# Altium footprint library 418 121 270 8xx.PcbLib: 11 footprints
Each footprint in its own frame and in the unit in brackets; x right, y up, seen from the top. Pads: shape width x height; smd on the part's side, far side on the other; paste and mask are expansions set on the pad; w line width, h text height; cw(c..) or ccw(c..) is an arc to the next point about the centre after c.
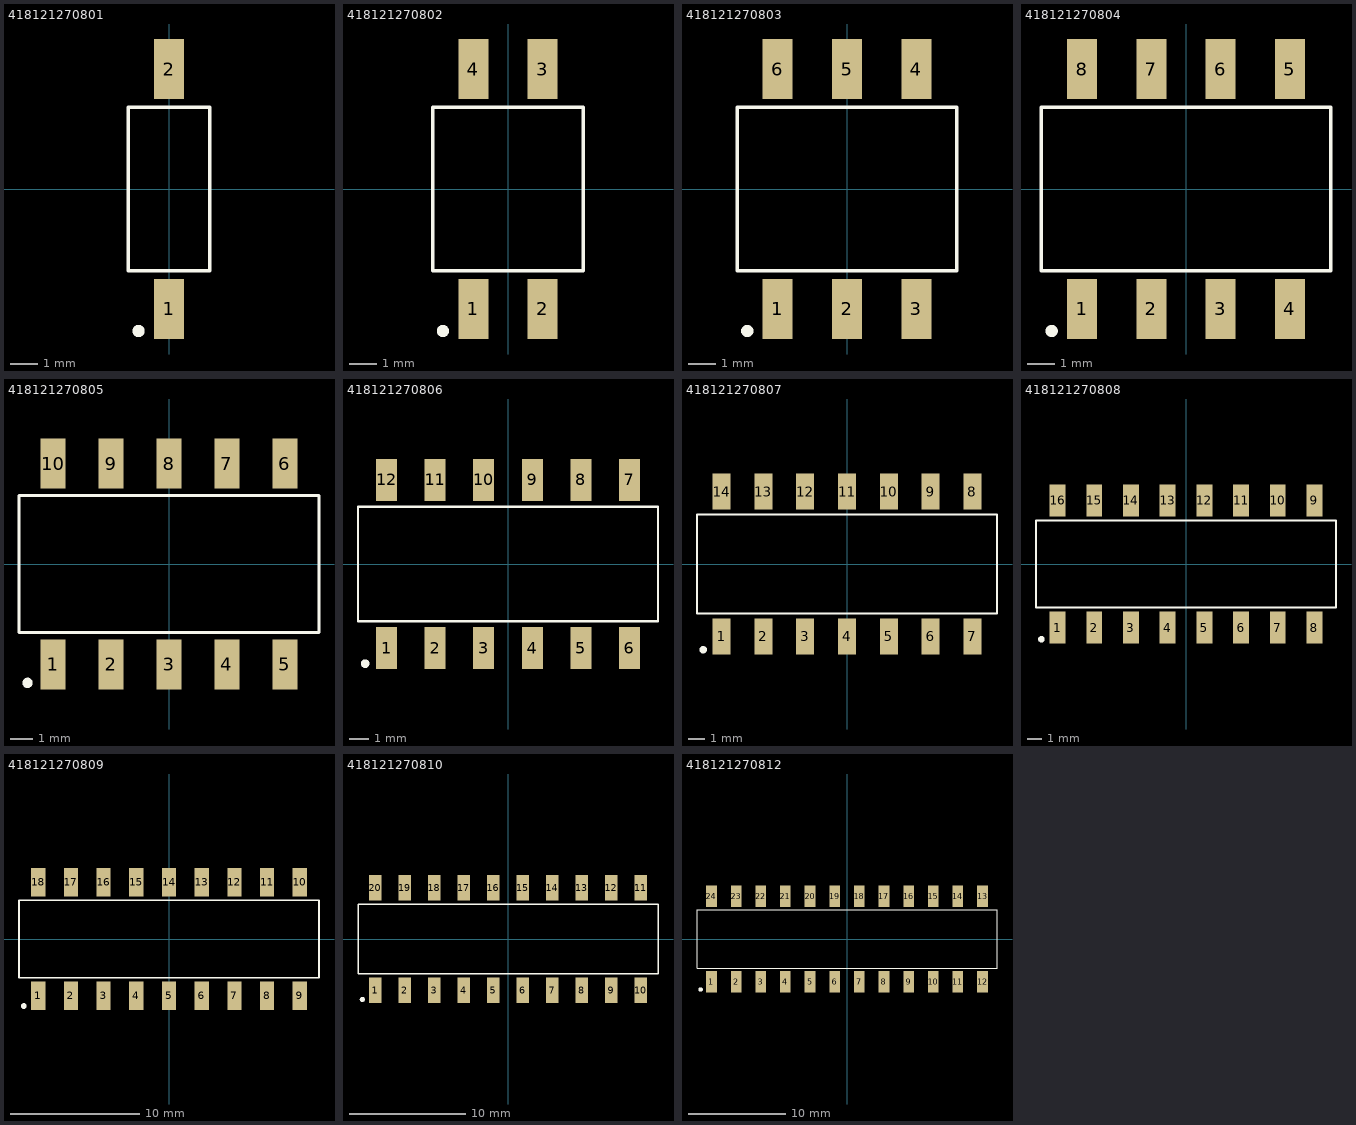
[diagram p0: the footprints below, top view; thin cyan lines are the x and y axes]

## 418121270801 [mm] "01p, 2.54mm Pitch, Horizontal, IC Type, SMT, raised Actuator, black, without Tape, T&R"
height 4.4
pads (2):
  rect 1.1x2.2 smd: 1(0,-4.4) 2(0,4.4)
Top Overlay:
  circle w0.25: c-1.116,-5.207 r0.1
  lines w0.127: -1.49,-3 -1.49,3 1.49,3 1.49,-3 -1.49,-3
3D body: height 4.32, standoff 0, extent -1.74,-4.9 1.74,4.9

## 418121270802 [mm] "02p, 2.54mm Pitch, Horizontal, IC Type, SMT, raised Actuator, black, without Tape, T&R"
height 4.4
pads (4):
  rect 1.1x2.2 smd: 1(-1.27,-4.4) 2(1.27,-4.4) 3(1.27,4.4) 4(-1.27,4.4)
Top Overlay:
  circle w0.25: c-2.386,-5.207 r0.1
  lines w0.127: -2.76,-3 2.76,-3 2.76,3 -2.76,3 -2.76,-3
3D body: height 4.32, standoff 0, extent -3.01,-4.9 3.01,4.9

## 418121270803 [mm] "03p, 2.54mm Pitch, Horizontal, IC Type, SMT, raised Actuator, black, without Tape, T&R"
height 4.4
pads (6):
  rect 1.1x2.2 smd: 1(-2.54,-4.4) 2(0,-4.4) 3(2.54,-4.4) 4(2.54,4.4) 5(0,4.4) 6(-2.54,4.4)
Top Overlay:
  circle w0.25: c-3.656,-5.207 r0.1
  lines w0.127: -4.03,-3 -4.03,3 4.03,3 4.03,-3 -4.03,-3
3D body: height 4.32, standoff 0, extent -4.28,-4.9 4.28,4.9

## 418121270804 [mm] "04p, 2.54mm Pitch, Horizontal, IC Type, SMT, raised Actuator, black, without Tape, T&R"
height 4.4
pads (8):
  rect 1.1x2.2 smd: 1(-3.81,-4.4) 2(-1.27,-4.4) 3(1.27,-4.4) 4(3.81,-4.4) 5(3.81,4.4) 6(1.27,4.4) 7(-1.27,4.4) 8(-3.81,4.4)
Top Overlay:
  circle w0.25: c-4.926,-5.207 r0.1
  lines w0.127: -5.3,-3 5.3,-3 5.3,3 -5.3,3 -5.3,-3
3D body: height 4.32, standoff 0, extent -5.55,-4.9 5.55,4.9

## 418121270805 [mm] "05p, 2.54mm Pitch, Horizontal, IC Type, SMT, raised Actuator, black, without Tape, T&R"
height 4.4
pads (10):
  rect 1.1x2.2 smd: 1(-5.08,-4.4) 2(-2.54,-4.4) 3(0,-4.4) 4(2.54,-4.4) 5(5.08,-4.4) 6(5.08,4.4) 7(2.54,4.4) 8(0,4.4) 9(-2.54,4.4) 10(-5.08,4.4)
Top Overlay:
  circle w0.25: c-6.196,-5.207 r0.1
  lines w0.127: -6.57,-3 -6.57,3 6.57,3 6.57,-3 -6.57,-3
3D body: height 4.32, standoff 0, extent -6.82,-4.9 6.82,4.9

## 418121270806 [mm] "06p, 2.54mm Pitch, Horizontal, IC Type, SMT, raised Actuator, black, without Tape, T&R"
height 4.4
pads (12):
  rect 1.1x2.2 smd: 1(-6.35,-4.4) 2(-3.81,-4.4) 3(-1.27,-4.4) 4(1.27,-4.4) 5(3.81,-4.4) 6(6.35,-4.4) 7(6.35,4.4) 8(3.81,4.4) 9(1.27,4.4) 10(-1.27,4.4) 11(-3.81,4.4) 12(-6.35,4.4)
Top Overlay:
  circle w0.25: c-7.466,-5.207 r0.1
  lines w0.127: -7.84,-3 -7.84,3 7.84,3 7.84,-3 -7.84,-3
3D body: height 4.32, standoff 0, extent -8.09,-4.9 8.09,4.9

## 418121270807 [mm] "07p, 2.54mm Pitch, Horizontal, IC Type, SMT, raised Actuator, black, without Tape, T&R"
height 4.4
pads (14):
  rect 1.1x2.2 smd: 1(-7.62,-4.4) 2(-5.08,-4.4) 3(-2.54,-4.4) 4(0,-4.4) 5(2.54,-4.4) 6(5.08,-4.4) 7(7.62,-4.4) 8(7.62,4.4) 9(5.08,4.4) 10(2.54,4.4) 11(0,4.4) 12(-2.54,4.4) 13(-5.08,4.4) 14(-7.62,4.4)
Top Overlay:
  circle w0.25: c-8.736,-5.207 r0.1
  lines w0.127: -9.11,-3 9.11,-3 9.11,3 -9.11,3 -9.11,-3
3D body: height 4.32, standoff 0, extent -9.36,-4.9 9.36,4.9

## 418121270808 [mm] "08p, 2.54mm Pitch, Horizontal, IC Type, SMT, raised Actuator, black, without Tape, T&R"
height 4.4
pads (16):
  rect 1.1x2.2 smd: 1(-8.89,-4.4) 2(-6.35,-4.4) 3(-3.81,-4.4) 4(-1.27,-4.4) 5(1.27,-4.4) 6(3.81,-4.4) 7(6.35,-4.4) 8(8.89,-4.4) 9(8.89,4.4) 10(6.35,4.4) 11(3.81,4.4) 12(1.27,4.4) 13(-1.27,4.4) 14(-3.81,4.4) 15(-6.35,4.4) 16(-8.89,4.4)
Top Overlay:
  circle w0.25: c-10.006,-5.207 r0.1
  lines w0.127: -10.38,-3 10.38,-3 10.38,3 -10.38,3 -10.38,-3
3D body: height 4.32, standoff 0, extent -10.63,-4.9 10.63,4.9

## 418121270809 [mm] "09p, 2.54mm Pitch, Horizontal, IC Type, SMT, raised Actuator, black, without Tape, T&R"
height 4.4
pads (18):
  rect 1.1x2.2 smd: 1(-10.16,-4.4) 2(-7.62,-4.4) 3(-5.08,-4.4) 4(-2.54,-4.4) 5(0,-4.4) 6(2.54,-4.4) 7(5.08,-4.4) 8(7.62,-4.4) 9(10.16,-4.4) 10(10.16,4.4) 11(7.62,4.4) 12(5.08,4.4) 13(2.54,4.4) 14(0,4.4) 15(-2.54,4.4) 16(-5.08,4.4) 17(-7.62,4.4) 18(-10.16,4.4)
Top Overlay:
  circle w0.25: c-11.276,-5.207 r0.1
  lines w0.127: -11.65,-3 11.65,-3 11.65,3 -11.65,3 -11.65,-3
3D body: height 4.32, standoff 0, extent -11.9,-4.9 11.9,4.9

## 418121270810 [mm] "10p, 2.54mm Pitch, Horizontal, IC Type, SMT, raised Actuator, black, without Tape, T&R"
height 4.4
pads (20):
  rect 1.1x2.2 smd: 1(-11.43,-4.4) 2(-8.89,-4.4) 3(-6.35,-4.4) 4(-3.81,-4.4) 5(-1.27,-4.4) 6(1.27,-4.4) 7(3.81,-4.4) 8(6.35,-4.4) 9(8.89,-4.4) 10(11.43,-4.4) 11(11.43,4.4) 12(8.89,4.4) 13(6.35,4.4) 14(3.81,4.4) 15(1.27,4.4) 16(-1.27,4.4) 17(-3.81,4.4) 18(-6.35,4.4) 19(-8.89,4.4) 20(-11.43,4.4)
Top Overlay:
  circle w0.25: c-12.546,-5.207 r0.1
  lines w0.127: -12.92,-3 12.92,-3 12.92,3 -12.92,3 -12.92,-3
3D body: height 4.32, standoff 0, extent -13.17,-4.9 13.17,4.9

## 418121270812 [mm] "12p, 2.54mm Pitch, Horizontal, IC Type, SMT, raised Actuator, black, without Tape, T&R"
height 4.4
pads (24):
  rect 1.1x2.2 smd: 1(-13.97,-4.4) 2(-11.43,-4.4) 3(-8.89,-4.4) 4(-6.35,-4.4) 5(-3.81,-4.4) 6(-1.27,-4.4) 7(1.27,-4.4) 8(3.81,-4.4) 9(6.35,-4.4) 10(8.89,-4.4) 11(11.43,-4.4) 12(13.97,-4.4) 13(13.97,4.4) 14(11.43,4.4) 15(8.89,4.4) 16(6.35,4.4) 17(3.81,4.4) 18(1.27,4.4) 19(-1.27,4.4) 20(-3.81,4.4) 21(-6.35,4.4) 22(-8.89,4.4) 23(-11.43,4.4) 24(-13.97,4.4)
Top Overlay:
  circle w0.25: c-15.086,-5.207 r0.1
  lines w0.127: -15.46,-3 15.46,-3 15.46,3 -15.46,3 -15.46,-3
3D body: height 4.32, standoff 0, extent -15.71,-4.9 15.71,4.9